# EAGLE library part OKR-T/50-W12-C (library OKR-T-50-W12-C)
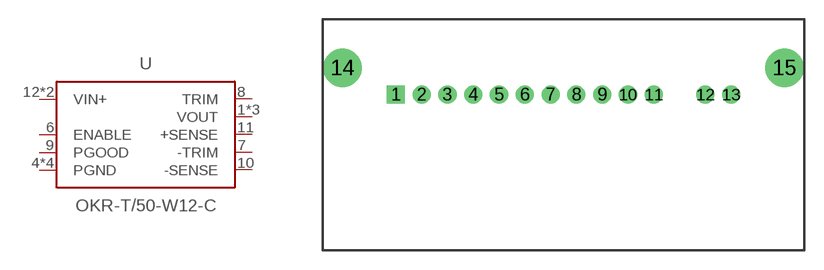
[diagram p0: symbol with the pads of OKR-T/50-W12-C; footprint OKR-T/50-W12-C]

Designator prefix -

## OKR-T/50-W12-C  [OKR-T/50-W12-C]
1  VOUT  in
2  VOUT  in
3  VOUT  in
4  PGND  in
5  PGND  in
6  ENABLE  in
7  -TRIM  in
8  TRIM  in
9  PGOOD  in
10  -SENSE  in
11  +SENSE  in
12  VIN+  in
13  VIN+  in
14  PGND  in
15  PGND  in

## Footprint OKR-T/50-W12-C (pad centres in mm)
PIN HEADER - 2
drill 0.9 square: 1 -13,3.14
drill 0.9: 2 -11,3.14; 3 -9,3.14; 4 -7,3.14; 5 -5,3.14; 6 -3,3.14; 7 -1,3.14; 8 1,3.14; 9 3,3.14; 10 5,3.14; 11 7,3.14; 12 11,3.14; 13 13,3.14
drill 2: 14 -17.145,5.2; 15 17.145,5.2